# Altium schematic symbol library DCDC_LDO.SchLib: 17 symbols
Pins are listed as number, name and electrical type; pins without a type are passive.

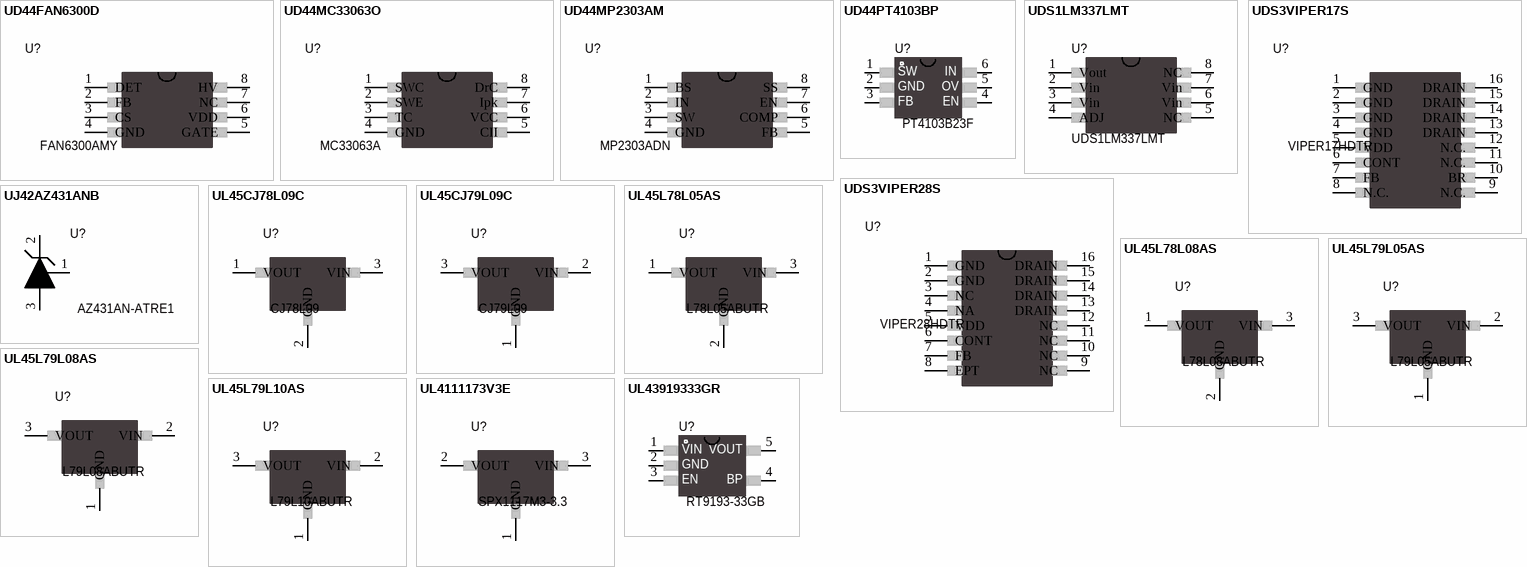
[diagram p0: symbols UD44FAN6300D to UL43919333GR]

## UD44FAN6300D
designator U?, comment FAN6300AMY
Switching Controller FAN6300AMY 100kHz; Manufacturer: FAIRCHILD SEMICONDUCTOR; TemperatureRange: -40 to 125°C; MountType: SMT; PackageReference: SOIC-8; Published: 1-Jun-2017; Publisher: GreenBox; VenderID: FAN6300AMY
footprint SO-8_N (8-Pin Small Outline Integrated Circuit 1.27 mm Pitch, IPC Medium Density)
footprint SO-8_L (8-Pin Small Outline Integrated Circuit 1.27 mm Pitch, IPC High Density)
footprint SO-8_M (8-Pin Small Outline Integrated Circuit 1.27 mm Pitch, IPC Low Density)
pins: 1 DET, 2 FB, 3 CS, 4 GND, 5 GATE, 6 VDD, 7 NC, 8 HV
2 alternate drawings of the same symbol

## UD44MC33063O
designator U?, comment MC33063A
Switching Regulator MC33063A 100kHz; Manufacturer: ON SEMICONDUCTOR; TemperatureRange: -40 to 85°C; MountType: SMT; PackageReference: SOIC-8; Published: 1-Jun-2017; Publisher: GreenBox; VenderID: MC33063A
footprint SO-8_N (8-Pin Small Outline Integrated Circuit 1.27 mm Pitch, IPC Medium Density)
footprint SO-8_L (8-Pin Small Outline Integrated Circuit 1.27 mm Pitch, IPC High Density)
footprint SO-8_M (8-Pin Small Outline Integrated Circuit 1.27 mm Pitch, IPC Low Density)
pins: 1 SWC, 2 SWE, 3 TC, 4 GND, 5 CII, 6 VCC, 7 Ipk, 8 DrC
2 alternate drawings of the same symbol

## UD44MP2303AM
designator U?, comment MP2303ADN
Switching Regulator MP2303ADN 340kHz; Manufacturer: MPS; TemperatureRange: -40 to 85°C; MountType: SMT; PackageReference: SOIC-8; Published: 1-Jun-2017; Publisher: GreenBox; VenderID: MP2303ADN
footprint SO-8_N (8-Pin Small Outline Integrated Circuit 1.27 mm Pitch, IPC Medium Density)
footprint SO-8_L (8-Pin Small Outline Integrated Circuit 1.27 mm Pitch, IPC High Density)
footprint SO-8_M (8-Pin Small Outline Integrated Circuit 1.27 mm Pitch, IPC Low Density)
pins: 1 BS, 2 IN, 3 SW, 4 GND, 5 FB, 6 COMP, 7 EN, 8 SS
2 alternate drawings of the same symbol

## UD44PT4103BP
designator U?, comment PT4103B23F
Step-Up Converter 600mA 1.2MHz; Manufacturer: POWTECH; TemperatureRange: -40 to 85°C; VenderID: PT4103B23F; Publisher: GreenBox; Published: 1-Jun-2017; PackageReference: SOT-23-6; MountType: SMT
footprint SOT-23-6 (SOT23-6, 6-Leads, Body 2.9x1.3mm, Pitch 0.95mm, Lead Span 2.5mm)
pins: 1 SW, 2 GND, 3 FB, 4 SHDN, 5 VOUT, 6 VIN
2 alternate drawings of the same symbol
text: IN; OV; EN

## UDS1LM337LMT
designator U?
Adjustable Switching Regulator LM337LM/NOPB; Manufacturer: TI; TemperatureRange: -25 to 125°C; Published: 1-Jun-2017; Publisher: GreenBox; MountType: SMT; PackageReference: SOIC-8; VenderID: LM337LM/NOPB
footprint SO-8_N (8-Pin Small Outline Integrated Circuit 1.27 mm Pitch, IPC Medium Density)
footprint SO-8_L (8-Pin Small Outline Integrated Circuit 1.27 mm Pitch, IPC High Density)
footprint SO-8_M (8-Pin Small Outline Integrated Circuit 1.27 mm Pitch, IPC Low Density)
pins: 1 Vout, 2 Vin, 3 Vin, 4 ADJ, 5 NC, 6 Vin, 7 Vin, 8 NC
2 alternate drawings of the same symbol

## UDS3VIPER17S
designator U?, comment VIPER17HDTR
Switching Regulator VIPER17HDTR 127kHz; Manufacturer: STMicroelectronics; MountType: SMT; PackageReference: SO-16; Published: 1-Jun-2017; Publisher: GreenBox; TemperatureRange: *; VenderID: VIPER17HDTR
footprint SO-16_N (16-Pin Small Outline Integrated Circuit 1.27 mm Pitch, IPC Medium Density)
footprint SO-16_L (16-Pin Small Outline Integrated Circuit 1.27 mm Pitch, IPC High Density)
footprint SO-16_M (16-Pin Small Outline Integrated Circuit 1.27 mm Pitch, IPC Low Density)
pins: 1 GND, 2 GND, 3 GND, 4 GND, 5 VDD, 6 CONT, 7 FB, 8 N.C., 9 N.C., 10 BR, 11 N.C., 12 N.C., 13 DRAIN, 14 DRAIN, 15 DRAIN, 16 DRAIN
2 alternate drawings of the same symbol

## UDS3VIPER28S
designator U?, comment VIPER28HDTR
Switching Regulator VIPER28HDTR 127kHz; Manufacturer: STMicroelectronics; MountType: SMT; PackageReference: SO-16; Published: 1-Jun-2017; Publisher: GreenBox; TemperatureRange: *; VenderID: VIPER28HDTR
footprint SO-16_N (16-Pin Small Outline Integrated Circuit 1.27 mm Pitch, IPC Medium Density)
footprint SO-16_L (16-Pin Small Outline Integrated Circuit 1.27 mm Pitch, IPC High Density)
footprint SO-16_M (16-Pin Small Outline Integrated Circuit 1.27 mm Pitch, IPC Low Density)
pins: 1 GND, 2 GND, 3 NC, 4 NA, 5 VDD, 6 CONT, 7 FB, 8 EPT, 9 NC, 10 NC, 11 NC, 12 NC, 13 DRAIN, 14 DRAIN, 15 DRAIN, 16 DRAIN
2 alternate drawings of the same symbol

## UJ42AZ431ANB
designator U?, comment AZ431AN-ATRE1
Voltage Reference AZ431AN-ATRE1 Vref 2.5V; Manufacturer: BCD SEMICONDUCTOR; TemperatureRange: -40 to 125°C; VenderID: AZ431AN-ATRE1; Publisher: GreenBox; Published: 1-Jun-2017; PackageReference: SOT-23-6; MountType: SMT
footprint SOT-23_N (SOT23, 3-Leads, Body 2.9x1.3mm, Pitch 0.95mm, Lead Span 2.5mm, IPC Medium Density)
footprint SOT-23_M (SOT23, 3-Leads, Body 2.9x1.3mm, Pitch 0.95mm, Lead Span 2.5mm, IPC Low Density)
footprint SOT-23_L (SOT23, 3-Leads, Body 2.9x1.3mm, Pitch 0.95mm, Lead Span 2.5mm, IPC High Density)
pins: 1 OUT, 2 IN+, 3 IN-
2 alternate drawings of the same symbol

## UL45CJ78L09C
designator U?, comment CJ78L09
Positive Voltage Regulators CJ78L09 9V 100mA; Manufacturer: CHANGJIANG ELECTRONICS; TemperatureRange: -40 to 125°C; VenderID: CJ78L09; Publisher: GreenBox; Published: 1-Jun-2017; PackageReference: SOT-89; MountType: SMT
footprint SOT-89 (SOT-89; Body 4.6 x 4.25 mm, inc. leads (LxW max))
pins: 1 VOUT, 2 GND, 3 VIN
2 alternate drawings of the same symbol

## UL45CJ79L09C
designator U?, comment CJ79L09
Negative Voltage Regulators CJ79L09 -9V 100mA; Manufacturer: CHANGJIANG ELECTRONICS; TemperatureRange: -40 to 125°C; VenderID: CJ79L09; Publisher: GreenBox; Published: 1-Jun-2017; PackageReference: SOT-89; MountType: SMT
footprint SOT-89 (SOT-89; Body 4.6 x 4.25 mm, inc. leads (LxW max))
pins: 1 GND, 2 VIN, 3 VOUT
2 alternate drawings of the same symbol

## UL45L78L05AS
designator U?, comment L78L05ABUTR
Positive Voltage Regulators L78L05ABUTR 5V 100mA; Manufacturer: ST; TemperatureRange: -40 to 125°C; VenderID: L78L05ABUTR; Publisher: GreenBox; Published: 1-Jun-2017; PackageReference: SOT-89; MountType: SMT
footprint SOT-89 (SOT-89; Body 4.6 x 4.25 mm, inc. leads (LxW max))
pins: 1 VOUT, 2 GND, 3 VIN
2 alternate drawings of the same symbol

## UL45L78L08AS
designator U?, comment L78L08ABUTR
Positive Voltage Regulators L78L08ABUTR 8V 100mA; Manufacturer: ST; TemperatureRange: -40 to 125°C; VenderID: L78L08ABUTR; Publisher: GreenBox; Published: 1-Jun-2017; PackageReference: SOT-89; MountType: SMT
footprint SOT-89 (SOT-89; Body 4.6 x 4.25 mm, inc. leads (LxW max))
pins: 1 VOUT, 2 GND, 3 VIN
2 alternate drawings of the same symbol

## UL45L79L05AS
designator U?, comment L79L05ABUTR
Negative Voltage Regulators L79L05ABUTR -5V 100mA; Manufacturer: ST; TemperatureRange: -40 to 125°C; VenderID: L79L05ABUTR; Publisher: GreenBox; Published: 1-Jun-2017; PackageReference: SOT-89; MountType: SMT
footprint SOT-89 (SOT-89; Body 4.6 x 4.25 mm, inc. leads (LxW max))
pins: 1 GND, 2 VIN, 3 VOUT
2 alternate drawings of the same symbol

## UL45L79L08AS
designator U?, comment L79L08ABUTR
Negative Voltage Regulators L79L08ABUTR -8V 100mA; Manufacturer: ST; TemperatureRange: -40 to 125°C; VenderID: L79L08ABUTR; Publisher: GreenBox; Published: 1-Jun-2017; PackageReference: SOT-89; MountType: SMT
footprint SOT-89 (SOT-89; Body 4.6 x 4.25 mm, inc. leads (LxW max))
pins: 1 GND, 2 VIN, 3 VOUT
2 alternate drawings of the same symbol

## UL45L79L10AS
designator U?, comment L79L10ABUTR
Negative Voltage Regulators L79L10ABUTR -10V 100mA; Manufacturer: ST; TemperatureRange: -40 to 125°C; VenderID: L79L10ABUTR; Publisher: GreenBox; Published: 1-Jun-2017; PackageReference: SOT-89; MountType: SMT
footprint SOT-89 (SOT-89; Body 4.6 x 4.25 mm, inc. leads (LxW max))
pins: 1 GND, 2 VIN, 3 VOUT
2 alternate drawings of the same symbol

## UL4111173V3E
designator U?, comment SPX1117M3-3.3
LDO SPX1117M3-3.3 3V3 800mA; Manufacturer: SIPEX CORPORATION; TemperatureRange: -40°C to 125°C; VenderID: SPX1117M3-3.3; Publisher: GreenBox; Published: 1-Jun-2017; PackageReference: SOT-223; MountType: SMT
footprint SOT223_N (SOT223, 4-Leads, Body 6.5x3.5mm, Pitch 2.3mm, Lead Span 7mm, IPC Medium Density)
footprint SOT223_L (SOT223, 4-Leads, Body 6.5x3.5mm, Pitch 2.3mm, Lead Span 7mm, IPC High Density)
footprint SOT223_M (SOT223, 4-Leads, Body 6.5x3.5mm, Pitch 2.3mm, Lead Span 7mm, IPC Low Density)
pins: 1 GND, 2 VOUT, 3 VIN, 4 VOUT
2 alternate drawings of the same symbol

## UL43919333GR
designator U?, comment RT9193-33GB
LDO RT9193-33GB 3V3 300mA; Manufacturer: RICHTEK; TemperatureRange: -40°C to 85°C; VenderID: SPX1117M3-3.3; Publisher: GreenBox; Published: 1-Jul-2018; PackageReference: SOT-23-5; MountType: SMT
footprint SOT-23-5 (SOT23-5, 5-Leads, Body 2.9x1.3mm, Pitch 0.95mm, Lead Span 2.5mm)
footprint SOT223_L (SOT223, 4-Leads, Body 6.5x3.5mm, Pitch 2.3mm, Lead Span 7mm, IPC High Density)
footprint SOT223_M (SOT223, 4-Leads, Body 6.5x3.5mm, Pitch 2.3mm, Lead Span 7mm, IPC Low Density)
pins: 1 VIN, 2 GND, 3 EN, 4 BP, 5 VOUT
2 alternate drawings of the same symbol